# EAGLE library part TVC-EXP-HBA-2 (library tvc-exp)
Videoton TV-Computer 64k+ expansion port edge connector
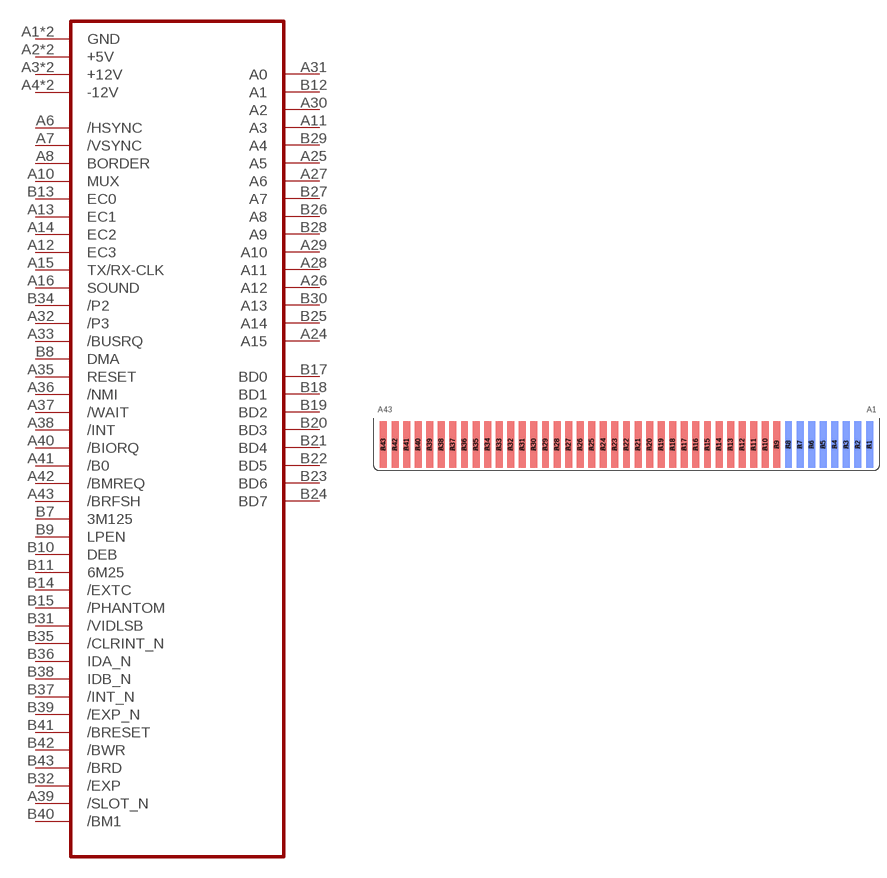
[diagram p1: symbol with the pads of TVC-EXP-EDGE; footprint TVC-EXP-EDGE]

Designator prefix -

## TVC-EXP-HBA-2  [TVC-EXP-EDGE]
A1  GND  sup
A2  +5V  sup
A3  +12V  sup
A4  -12V  sup
A6  /HSYNC
A7  /VSYNC
A8  BORDER
A10  MUX
A11  A3
A12  EC3
A13  EC1
A14  EC2
A15  TX/RX-CLK
A16  SOUND
A24  A15
A25  A5
A26  A12
A27  A6
A28  A11
A29  A10
A30  A2
A31  A0
A32  /P3
A33  /BUSRQ
A35  RESET
A36  /NMI
A37  /WAIT
A38  /INT
A39  /SLOT_N  in
A40  /BIORQ  out
A41  /B0
A42  /BMREQ  out
A43  /BRFSH
B1  GND  sup
B2  +5V  sup
B3  +12V  sup
B4  -12V  sup
B7  3M125
B8  DMA
B9  LPEN
B10  DEB
B11  6M25
B12  A1
B13  EC0
B14  /EXTC
B15  /PHANTOM
B17  BD0
B18  BD1
B19  BD2
B20  BD3
B21  BD4
B22  BD5
B23  BD6
B24  BD7
B25  A14
B26  A8
B27  A7
B28  A9
B29  A4
B30  A13
B31  /VIDLSB
B32  /EXP
B34  /P2
B35  /CLRINT_N
B36  IDA_N
B37  /INT_N
B38  IDB_N
B39  /EXP_N
B40  /BM1
B41  /BRESET
B42  /BWR  out
B43  /BRD  out

## Footprint TVC-EXP-EDGE (pad centres in mm)
smd 1.524 x 10.16: A1 53.34,-5.715; A2 50.8,-5.715; A3 48.26,-5.715; A4 45.72,-5.715; A5 43.18,-5.715; A6 40.64,-5.715; A7 38.1,-5.715; A8 35.56,-5.715; A9 33.02,-5.715; A10 30.48,-5.715; A11 27.94,-5.715; A12 25.4,-5.715; A13 22.86,-5.715; A14 20.32,-5.715; A15 17.78,-5.715; A16 15.24,-5.715; A17 12.7,-5.715; A18 10.16,-5.715; A19 7.62,-5.715; A20 5.08,-5.715; A21 2.54,-5.715; A22 0,-5.715; A23 -2.54,-5.715; A24 -5.08,-5.715; A25 -7.62,-5.715; A26 -10.16,-5.715; A27 -12.7,-5.715; A28 -15.24,-5.715; A29 -17.78,-5.715; A30 -20.32,-5.715; A31 -22.86,-5.715; A32 -25.4,-5.715; A33 -27.94,-5.715; A34 -30.48,-5.715; A35 -33.02,-5.715; A36 -35.56,-5.715; A37 -38.1,-5.715; A38 -40.64,-5.715; A39 -43.18,-5.715; A40 -45.72,-5.715; A41 -48.26,-5.715; A42 -50.8,-5.715; A43 -53.34,-5.715
smd 1.524 x 10.16 bottom: B1 53.34,-5.715; B2 50.8,-5.715; B3 48.26,-5.715; B4 45.72,-5.715; B5 43.18,-5.715; B6 40.64,-5.715; B7 38.1,-5.715; B8 35.56,-5.715; B9 33.02,-5.715; B10 30.48,-5.715; B11 27.94,-5.715; B12 25.4,-5.715; B13 22.86,-5.715; B14 20.32,-5.715; B15 17.78,-5.715; B16 15.24,-5.715; B17 12.7,-5.715; B18 10.16,-5.715; B19 7.62,-5.715; B20 5.08,-5.715; B21 2.54,-5.715; B22 0,-5.715; B23 -2.54,-5.715; B24 -5.08,-5.715; B25 -7.62,-5.715; B26 -10.16,-5.715; B27 -12.7,-5.715; B28 -15.24,-5.715; B29 -17.78,-5.715; B30 -20.32,-5.715; B31 -22.86,-5.715; B32 -25.4,-5.715; B33 -27.94,-5.715; B34 -30.48,-5.715; B35 -33.02,-5.715; B36 -35.56,-5.715; B37 -38.1,-5.715; B38 -40.64,-5.715; B39 -43.18,-5.715; B40 -45.72,-5.715; B41 -48.26,-5.715; B42 -50.8,-5.715; B43 -53.34,-5.715